# EAGLE library part M32F103ZET6_DEV_BOARD (library STM32F103ZET6_dev_board)
Created by Florenc Caminade Date 08/01/2018 Source
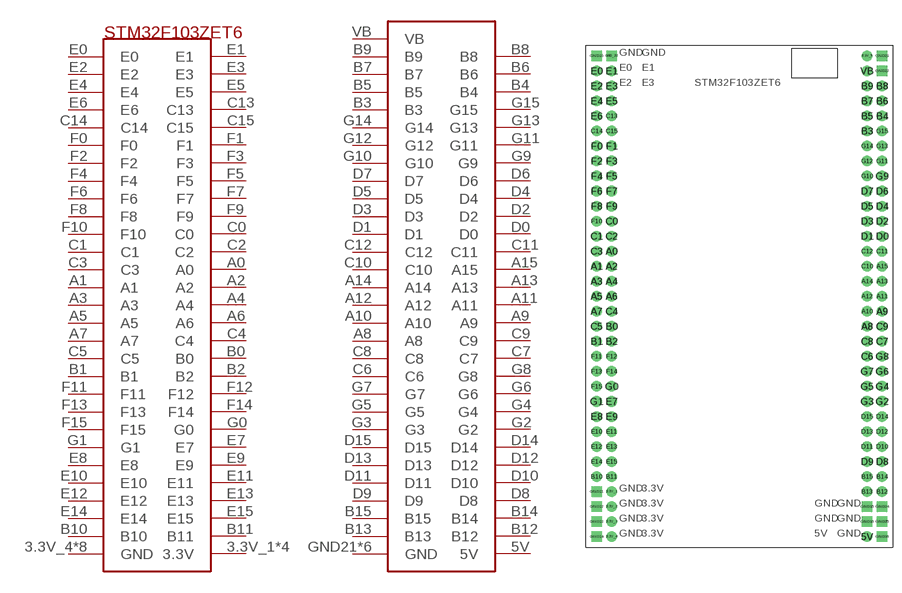
[diagram p0: symbol with the pads of STM32F103ZET6_DEV_BOARD; footprint STM32F103ZET6_DEV_BOARD]

Designator prefix -; gates G$1=STM32F103ZET6_DEV_BOARD_PART1 G$2=STM32F103ZET6_DEV_BOARD_PART2

## M32F103ZET6_DEV_BOARD  [STM32F103ZET6_DEV_BOARD]
3.3V_1  G$1:3.3V
3.3V_2  G$1:3.3V
3.3V_3  G$1:3.3V
3.3V_4  G$1:GND
3.3V_5  G$1:3.3V
5V  G$2:5V
A0  G$1:A0
A1  G$1:A1
A2  G$1:A2
A3  G$1:A3
A4  G$1:A4
A5  G$1:A5
A6  G$1:A6
A7  G$1:A7
A8  G$2:A8
A9  G$2:A9
A10  G$2:A10
A11  G$2:A11
A12  G$2:A12
A13  G$2:A13
A14  G$2:A14
A15  G$2:A15
B0  G$1:B0
B1  G$1:B1
B2  G$1:B2
B3  G$2:B3
B4  G$2:B4
B5  G$2:B5
B6  G$2:B6
B7  G$2:B7
B8  G$2:B8
B9  G$2:B9
B10  G$1:B10
B11  G$1:B11
B12  G$2:B12
B13  G$2:B13
B14  G$2:B14
B15  G$2:B15
C0  G$1:C0
C1  G$1:C1
C2  G$1:C2
C3  G$1:C3
C4  G$1:C4
C5  G$1:C5
C6  G$2:C6
C7  G$2:C7
C8  G$2:C8
C9  G$2:C9
C10  G$2:C10
C11  G$2:C11
C12  G$2:C12
C13  G$1:C13
C14  G$1:C14
C15  G$1:C15
D0  G$2:D0
D1  G$2:D1
D2  G$2:D2
D3  G$2:D3
D4  G$2:D4
D5  G$2:D5
D6  G$2:D6
D7  G$2:D7
D8  G$2:D8
D9  G$2:D9
D10  G$2:D10
D11  G$2:D11
D12  G$2:D12
D13  G$2:D13
D14  G$2:D14
D15  G$2:D15
E0  G$1:E0
E1  G$1:E1
E2  G$1:E2
E3  G$1:E3
E4  G$1:E4
E5  G$1:E5
E6  G$1:E6
E7  G$1:E7
E8  G$1:E8
E9  G$1:E9
E10  G$1:E10
E11  G$1:E11
E12  G$1:E12
E13  G$1:E13
E14  G$1:E14
E15  G$1:E15
F0  G$1:F0
F1  G$1:F1
F2  G$1:F2
F3  G$1:F3
F4  G$1:F4
F5  G$1:F5
F6  G$1:F6
F7  G$1:F7
F8  G$1:F8
F9  G$1:F9
F10  G$1:F10
F11  G$1:F11
F12  G$1:F12
F13  G$1:F13
F14  G$1:F14
F15  G$1:F15
G0  G$1:G0
G1  G$1:G1
G2  G$2:G2
G3  G$2:G3
G4  G$2:G4
G5  G$2:G5
G6  G$2:G6
G7  G$2:G7
G8  G$2:G8
G9  G$2:G9
G10  G$2:G10
G11  G$2:G11
G12  G$2:G12
G13  G$2:G13
G14  G$2:G14
G15  G$2:G15
GND10  G$1:GND
GND11  G$1:GND
GND12  G$1:GND
GND13  G$1:GND
GND14  G$1:GND
GND15  G$1:GND
GND16  G$1:GND
GND21  G$2:GND
GND22  G$2:GND
GND24  G$2:GND
GND25  G$2:GND
GND26  G$2:GND
GND_20  G$2:GND
VB  G$2:VB

## Footprint STM32F103ZET6_DEV_BOARD (pad centres in mm)
drill 0.9 pad 1.778: 3.3V_1 -21.59,-33.02; 3.3V_2 -21.59,-35.56; 3.3V_3 -21.59,-38.1; 3.3V_4 -21.59,-40.64; 3.3V_5 21.59,40.64; 5V 21.59,-40.64; A0 -21.59,7.62; A1 -24.13,5.08; A2 -21.59,5.08; A3 -24.13,2.54; A4 -21.59,2.54; A5 -24.13,0; A6 -21.59,0; A7 -24.13,-2.54; A8 21.59,-5.08; A9 24.13,-2.54; A10 21.59,-2.54; A11 24.13,0; A12 21.59,0; A13 24.13,2.54; A14 21.59,2.54; A15 24.13,5.08; B0 -21.59,-5.08; B1 -24.13,-7.62; B2 -21.59,-7.62; B3 21.59,27.94; B4 24.13,30.48; B5 21.59,30.48; B6 24.13,33.02; B7 21.59,33.02; B8 24.13,35.56; B9 21.59,35.56; B10 -24.13,-30.48; B11 -21.59,-30.48; B12 24.13,-33.02; B13 21.59,-33.02; B14 24.13,-30.48; B15 21.59,-30.48; C0 -21.59,12.7; C1 -24.13,10.16; C2 -21.59,10.16; C3 -24.13,7.62; C4 -21.59,-2.54; C5 -24.13,-5.08; C6 21.59,-10.16; C7 24.13,-7.62; C8 21.59,-7.62; C9 24.13,-5.08; C10 21.59,5.08; C11 24.13,7.62; C12 21.59,7.62; C13 -21.59,30.48; C14 -24.13,27.94; C15 -21.59,27.94; D0 24.13,10.16; D1 21.59,10.16; D2 24.13,12.7; D3 21.59,12.7; D4 24.13,15.24; D5 21.59,15.24; D6 24.13,17.78; D7 21.59,17.78; D8 24.13,-27.94; D9 21.59,-27.94; D10 24.13,-25.4; D11 21.59,-25.4; D12 24.13,-22.86; D13 21.59,-22.86; D14 24.13,-20.32; D15 21.59,-20.32; E0 -24.13,38.1; E1 -21.59,38.1; E2 -24.13,35.56; E3 -21.59,35.56; E4 -24.13,33.02; E5 -21.59,33.02; E6 -24.13,30.48; E7 -21.59,-17.78; E8 -24.13,-20.32; E9 -21.59,-20.32; E10 -24.13,-22.86; E11 -21.59,-22.86; E12 -24.13,-25.4; E13 -21.59,-25.4; E14 -24.13,-27.94; E15 -21.59,-27.94; F0 -24.13,25.4; F1 -21.59,25.4; F2 -24.13,22.86; F3 -21.59,22.86; F4 -24.13,20.32; F5 -21.59,20.32; F6 -24.13,17.78; F7 -21.59,17.78; F8 -24.13,15.24; F9 -21.59,15.24; F10 -24.13,12.7; F11 -24.13,-10.16; F12 -21.59,-10.16; F13 -24.13,-12.7; F14 -21.59,-12.7; F15 -24.13,-15.24; G0 -21.59,-15.24; G1 -24.13,-17.78; G2 24.13,-17.78; G3 21.59,-17.78; G4 24.13,-15.24; G5 21.59,-15.24; G6 24.13,-12.7; G7 21.59,-12.7; G8 24.13,-10.16; G9 24.13,20.32; G10 21.59,20.32; G11 24.13,22.86; G12 21.59,22.86; G13 24.13,25.4; G14 21.59,25.4; G15 24.13,27.94; VB 21.59,38.1
drill 0.9 pad 1.778 square: GND10 -24.13,40.64; GND11 -24.13,-33.02; GND12 -24.13,-35.56; GND13 -24.13,-38.1; GND14 -24.13,-40.64; GND15 21.59,-35.56; GND16 21.59,-38.1; GND21 24.13,40.64; GND22 24.13,38.1; GND24 24.13,-35.56; GND25 24.13,-38.1; GND26 24.13,-40.64; GND_20 -21.59,40.64